# EAGLE library part PIC16F84 (library custom-2002)
Microcontrolador PIC16F84
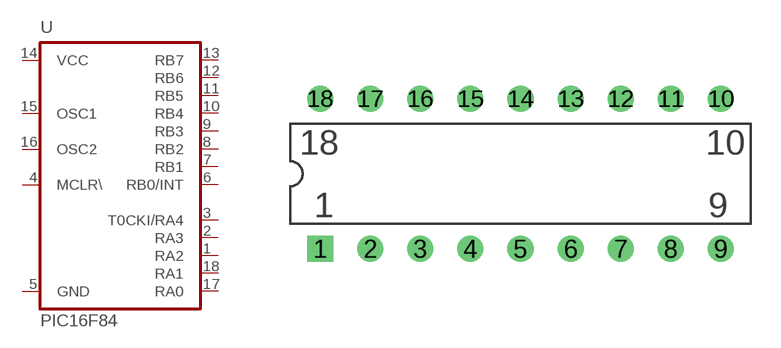
[diagram p4: symbol with the pads of DIL18; footprint DIL18]

Designator prefix U

## PIC16F84A  [DIL18]
1  RA2
2  RA3
3  T0CKI/RA4
4  MCLR\  in
5  GND  pwr
6  RB0/INT
7  RB1
8  RB2
9  RB3
10  RB4
11  RB5
12  RB6
13  RB7
14  VCC  pwr
15  OSC1  in
16  OSC2  out
17  RA0
18  RA1

## Footprint DIL18 (pad centres in mm)
drill 0.813 square: 1 -13.97,-1.27
drill 0.813 round: 2 -11.43,-1.27; 3 -8.89,-1.27; 4 -6.35,-1.27; 5 -3.81,-1.27; 6 -1.27,-1.27; 7 1.27,-1.27; 8 3.81,-1.27; 9 6.35,-1.27; 10 6.35,6.35; 11 3.81,6.35; 12 1.27,6.35; 13 -1.27,6.35; 14 -3.81,6.35; 15 -6.35,6.35; 16 -8.89,6.35; 17 -11.43,6.35; 18 -13.97,6.35